# Altium schematic symbol library FH33-10S-0.5SH(10).SchLib: 1 symbol
Pins are listed as number, name and electrical type; pins without a type are passive.

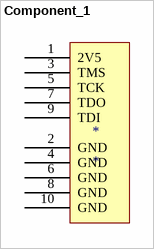
[diagram p0: symbol Component_1]

## Component_1
designator *
footprint PCBComponent_1 - duplicate
footprint PCBComponent_1 - duplicate
pins: 1 2V5, 2 GND, 3 TMS, 4 GND, 5 TCK, 6 GND, 7 TDO, 8 GND, 9 TDI, 10 GND